# Altium footprint library Electrolytic Capacitor.PcbLib: 16 footprints
Each footprint in its own frame and in the unit in brackets; x right, y up, seen from the top. Pads: shape width x height; smd on the part's side, far side on the other; paste and mask are expansions set on the pad; w line width, h text height; cw(c..) or ccw(c..) is an arc to the next point about the centre after c.
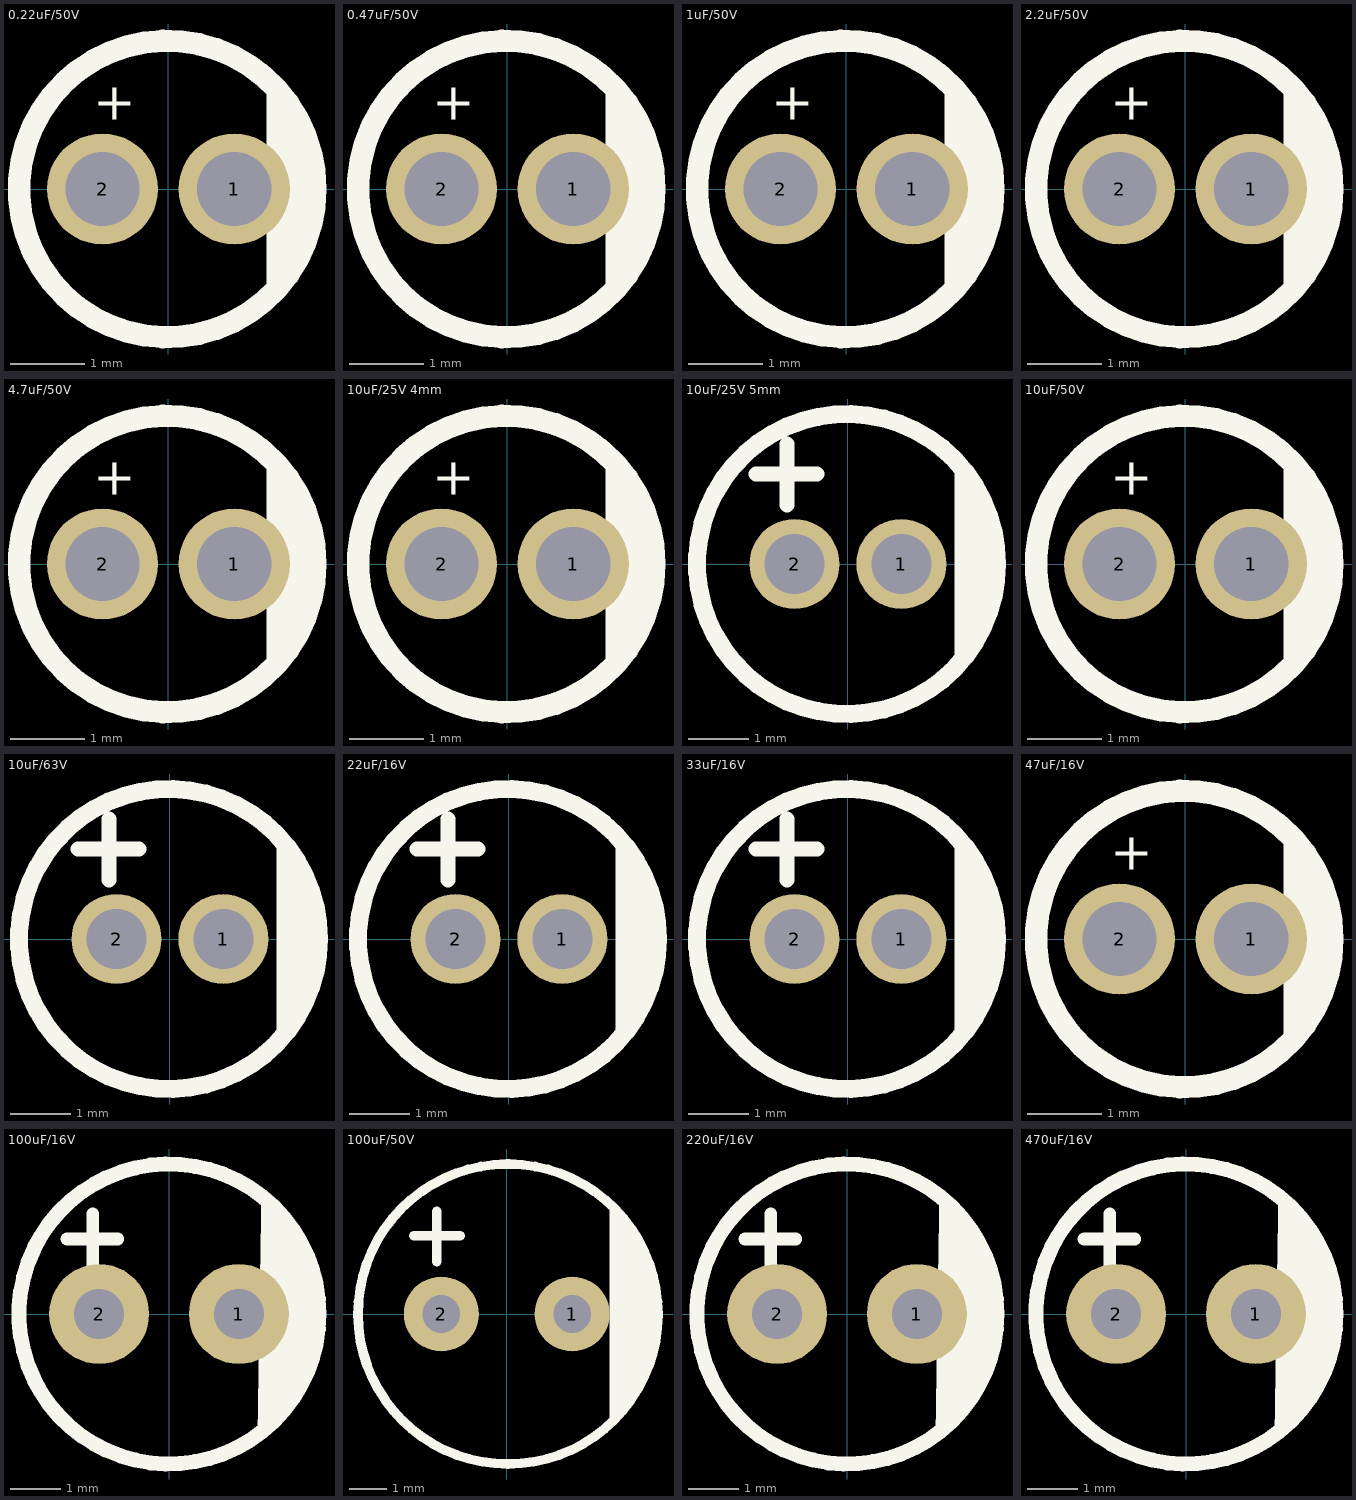
[diagram p0: the footprints below, top view; thin cyan lines are the x and y axes]

## 0.22uF/50V [mm] "ELECTROLYTIC CAPACITOR 4mm"
pads (2):
  round 1.5 hole 1: 1(0.889,0) 2(-0.889,0)
Top Overlay:
  circle w0.3: c-0.016,0 r2
  region: 1.326,1.674 1.493,1.514 1.757,1.133 1.939,0.708 2.032,0.254 2.032,-0.209 1.939,-0.662 1.757,-1.088 1.493,-1.469 1.326,-1.628
  text "+" at -1.016,0.933 h0.5
3D body "CAPPRD150W45D400H700.stp": height 7.01, standoff -2.7, extent -1.988,-1.994 2.01,1.994

## 0.47uF/50V [mm] "ELECTROLYTIC CAPACITOR 4mm"
pads (2):
  round 1.5 hole 1: 1(0.889,0) 2(-0.889,0)
Top Overlay:
  circle w0.3: c-0.016,0 r2
  region: 1.326,1.674 1.493,1.514 1.757,1.133 1.939,0.708 2.032,0.254 2.032,-0.209 1.939,-0.662 1.757,-1.088 1.493,-1.469 1.326,-1.628
  text "+" at -1.016,0.933 h0.5
3D body "CAPPRD150W45D400H700.stp": height 7.01, standoff -2.7, extent -1.988,-1.994 2.01,1.994

## 1uF/50V [mm] "ELECTROLYTIC CAPACITOR 4mm"
pads (2):
  round 1.5 hole 1: 1(0.889,0) 2(-0.889,0)
Top Overlay:
  circle w0.3: c-0.016,0 r2
  region: 1.326,1.674 1.493,1.514 1.757,1.133 1.939,0.708 2.032,0.254 2.032,-0.209 1.939,-0.662 1.757,-1.088 1.493,-1.469 1.326,-1.628
  text "+" at -1.016,0.933 h0.5
3D body "CAPPRD150W45D400H700.stp": height 7.01, standoff -2.7, extent -1.988,-1.994 2.01,1.994

## 2.2uF/50V [mm] "ELECTROLYTIC CAPACITOR 4mm"
pads (2):
  round 1.5 hole 1: 1(0.889,0) 2(-0.889,0)
Top Overlay:
  circle w0.3: c-0.016,0 r2
  region: 1.326,1.674 1.493,1.514 1.757,1.133 1.939,0.708 2.032,0.254 2.032,-0.209 1.939,-0.662 1.757,-1.088 1.493,-1.469 1.326,-1.628
  text "+" at -1.016,0.933 h0.5
3D body "CAPPRD150W45D400H700.stp": height 7.01, standoff -2.7, extent -1.988,-1.994 2.01,1.994

## 4.7uF/50V [mm] "ELECTROLYTIC CAPACITOR 4mm"
pads (2):
  round 1.5 hole 1: 1(0.889,0) 2(-0.889,0)
Top Overlay:
  circle w0.3: c-0.016,0 r2
  region: 1.326,1.674 1.493,1.514 1.757,1.133 1.939,0.708 2.032,0.254 2.032,-0.209 1.939,-0.662 1.757,-1.088 1.493,-1.469 1.326,-1.628
  text "+" at -1.016,0.933 h0.5
3D body "CAPPRD150W45D400H700.stp": height 7.01, standoff -2.7, extent -1.988,-1.994 2.01,1.994

## 10uF/25V 4mm [mm] "ELECTROLYTIC CAPACITOR 4mm"
pads (2):
  round 1.5 hole 1: 1(0.889,0) 2(-0.889,0)
Top Overlay:
  circle w0.3: c-0.016,0 r2
  region: 1.326,1.674 1.493,1.514 1.757,1.133 1.939,0.708 2.032,0.254 2.032,-0.209 1.939,-0.662 1.757,-1.088 1.493,-1.469 1.326,-1.628
  text "+" at -1.016,0.933 h0.5
3D body "CAPPRD150W45D400H700.stp": height 7.01, standoff -2.7, extent -1.988,-1.994 2.01,1.994

## 10uF/25V 5mm [mm] "ELECTROLYTIC CAPACITOR 5mm"
pads (2):
  round 1.5 hole 1: 1(0.889,0) 2(-0.889,0)
Top Overlay:
  circle w0.3: c-0.016,0 r2.5
  region: 1.778,1.651 1.945,1.491 2.209,1.111 2.391,0.685 2.484,0.231 2.484,-0.231 2.391,-0.685 2.209,-1.111 1.945,-1.491 1.778,-1.651
  lines w0.254: -1.532,1.5 -0.516,1.5 ; -1.016,0.984 -1.016,2
3D body "ELETROLYTIC_4mm.STEP": height 11, standoff -17, extent -2.5,-2.5 2.493,2.5

## 10uF/50V [mm] "ELECTROLYTIC CAPACITOR 4mm"
pads (2):
  round 1.5 hole 1: 1(0.889,0) 2(-0.889,0)
Top Overlay:
  circle w0.3: c-0.016,0 r2
  region: 1.326,1.674 1.493,1.514 1.757,1.133 1.939,0.708 2.032,0.254 2.032,-0.209 1.939,-0.662 1.757,-1.088 1.493,-1.469 1.326,-1.628
  text "+" at -1.016,0.933 h0.5
3D body "CAPPRD150W45D400H700.stp": height 7.01, standoff -2.7, extent -1.988,-1.994 2.01,1.994

## 10uF/63V [mm] "ELECTROLYTIC CAPACITOR 5mm"
pads (2):
  round 1.5 hole 1: 1(0.889,0) 2(-0.889,0)
Top Overlay:
  circle w0.3: c-0.016,0 r2.5
  region: 1.778,1.651 1.945,1.491 2.209,1.111 2.391,0.685 2.484,0.231 2.484,-0.231 2.391,-0.685 2.209,-1.111 1.945,-1.491 1.778,-1.651
  lines w0.254: -1.532,1.5 -0.516,1.5 ; -1.016,0.984 -1.016,2
3D body "ELETROLYTIC_5mm.STEP": height 11, standoff -17, extent -2.453,-2.5 2.54,2.5

## 22uF/16V [mm] "ELECTROLYTIC CAPACITOR 5mm"
pads (2):
  round 1.5 hole 1: 1(0.889,0) 2(-0.889,0)
Top Overlay:
  circle w0.3: c-0.016,0 r2.5
  region: 1.778,1.651 1.945,1.491 2.209,1.111 2.391,0.685 2.484,0.231 2.484,-0.231 2.391,-0.685 2.209,-1.111 1.945,-1.491 1.778,-1.651
  lines w0.254: -1.532,1.5 -0.516,1.5 ; -1.016,0.984 -1.016,2
3D body "ELETROLYTIC_5mm.STEP": height 11, standoff -17, extent -2.493,-2.5 2.5,2.5

## 33uF/16V [mm] "ELECTROLYTIC CAPACITOR 5mm"
pads (2):
  round 1.5 hole 1: 1(0.889,0) 2(-0.889,0)
Top Overlay:
  circle w0.3: c-0.016,0 r2.5
  region: 1.778,1.651 1.945,1.491 2.209,1.111 2.391,0.685 2.484,0.231 2.484,-0.231 2.391,-0.685 2.209,-1.111 1.945,-1.491 1.778,-1.651
  lines w0.254: -1.532,1.5 -0.516,1.5 ; -1.016,0.984 -1.016,2
3D body "ELETROLYTIC_5mm.STEP": height 11, standoff -17, extent -2.453,-2.5 2.54,2.5

## 47uF/16V [mm] "ELECTROLYTIC CAPACITOR 4mm"
pads (2):
  round 1.5 hole 1: 1(0.889,0) 2(-0.889,0)
Top Overlay:
  circle w0.3: c-0.016,0 r2
  region: 1.326,1.674 1.493,1.514 1.757,1.133 1.939,0.708 2.032,0.254 2.032,-0.209 1.939,-0.662 1.757,-1.088 1.493,-1.469 1.326,-1.628
  text "+" at -1.016,0.933 h0.5
3D body "CAPPRD150W45D400H700.stp": height 7.01, standoff -2.7, extent -1.988,-1.994 2.01,1.994

## 100uF/16V [mm] "ELECTROLYTIC CAPACITOR 6mm"
pads (2):
  round 2 hole 1: 1(1.397,0) 2(-1.397,0)
Top Overlay:
  circle w0.3: c0,0 r3
  region: 1.859,2.54 2.023,2.378 2.306,2.012 2.536,1.611 2.711,1.184 2.827,0.736 2.881,0.277 2.874,-0.185 2.804,-0.642 2.674,-1.085 2.485,-1.507 2.242,-1.9 1.948,-2.256 1.778,-2.413
  lines w0.254: -2.04,1.5 -1.024,1.5 ; -1.524,0.984 -1.524,2
3D body "CAPPRD250W50D630H1100.stp": height 11, standoff -3.2, extent -3.139,-3.142 3.152,3.142

## 100uF/50V [mm] "ELECTROLYTIC CAPACITOR 8mm"
pads (2):
  round 2 hole 1 paste+0 mask+0.1: 1(1.745,0) 2(-1.745,0)
Top Overlay:
  region: 2.745,-3.001 2.936,-2.801 3.263,-2.356 3.531,-1.873 3.736,-1.36 3.875,-0.825 3.945,-0.277 3.945,0.275 3.875,0.823 3.736,1.358 3.531,1.871 3.263,2.354 2.936,2.799 2.745,2.999
  lines w0.254: -2.482,2.083 -1.237,2.083 ; -1.872,1.397 -1.872,2.743 ; -0.003,4 ccw(c0.033,0) 0.069,4
3D body "ELECTROLYTIC_8mm.stp": height 12, standoff -4.1, extent -3.967,-3.996 4.033,3.996

## 220uF/16V [mm] "ELECTROLYTIC CAPACITOR 6mm"
pads (2):
  round 2 hole 1: 1(1.397,0) 2(-1.397,0)
Top Overlay:
  circle w0.3: c0,0 r3
  region: 1.859,2.54 2.023,2.378 2.306,2.012 2.536,1.611 2.711,1.184 2.827,0.736 2.881,0.277 2.874,-0.185 2.804,-0.642 2.674,-1.085 2.485,-1.507 2.242,-1.9 1.948,-2.256 1.778,-2.413
  lines w0.254: -2.04,1.5 -1.024,1.5 ; -1.524,0.984 -1.524,2
3D body "CAPPRD250W50D630H1100.stp": height 11, standoff -3.2, extent -3.139,-3.142 3.152,3.142

## 470uF/16V [mm] "ELECTROLYTIC CAPACITOR 6mm"
pads (2):
  round 2 hole 1: 1(1.397,0) 2(-1.397,0)
Top Overlay:
  circle w0.3: c0,0 r3
  region: 1.859,2.54 2.023,2.378 2.306,2.012 2.536,1.611 2.711,1.184 2.827,0.736 2.881,0.277 2.874,-0.185 2.804,-0.642 2.674,-1.085 2.485,-1.507 2.242,-1.9 1.948,-2.256 1.778,-2.413
  lines w0.254: -2.04,1.5 -1.024,1.5 ; -1.524,0.984 -1.524,2
3D body "CAPPRD250W50D630H1100.stp": height 11, standoff -3.2, extent -3.139,-3.142 3.152,3.142